# EAGLE library part AK4683 (library NewSDR)
ASAHI KASEI Asynchronous Multi-Channel Audio CODEC with DRI/T 64-pin LQFP
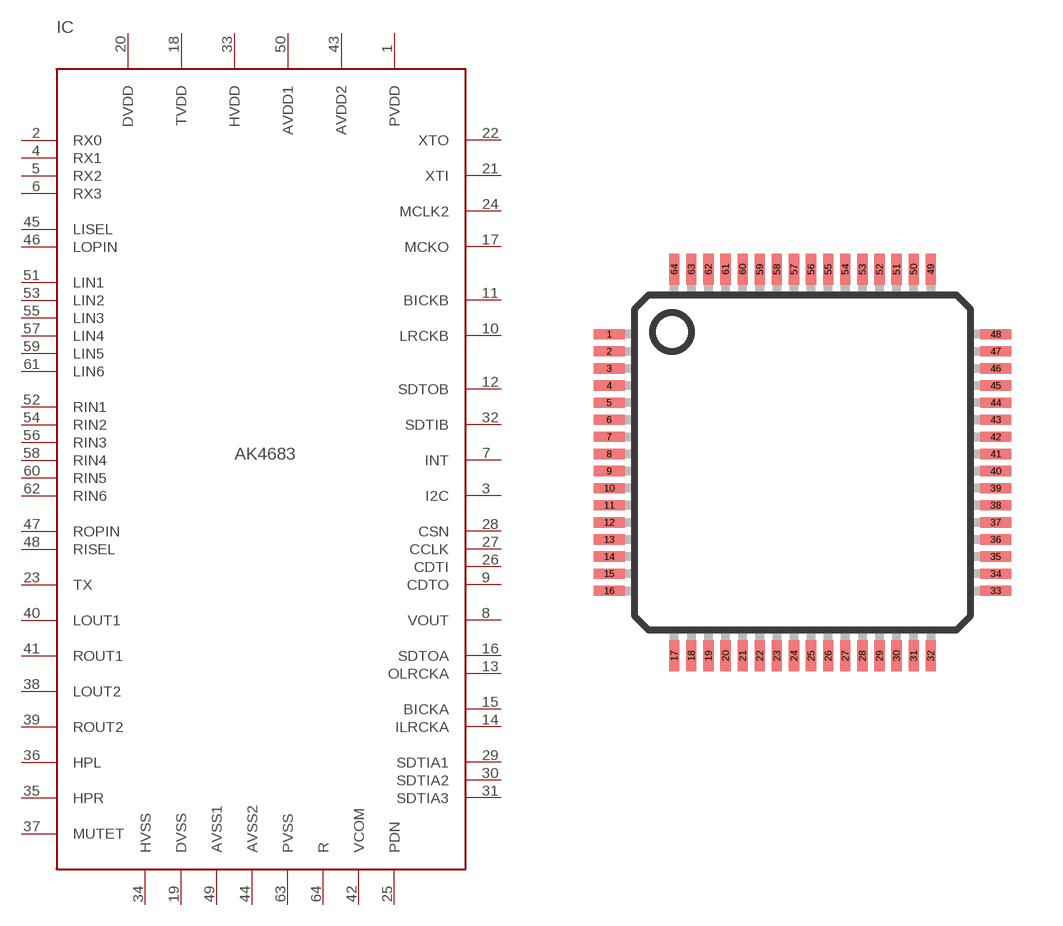
[diagram p16: symbol with the pads of LQFP-ST-64-2; footprint LQFP-ST-64-2]

Designator prefix IC

## AK4683  [LQFP-ST-64-2]
1  PVDD  pwr
2  RX0  in
3  I2C  in
4  RX1  in
5  RX2  in
6  RX3  in
7  INT  out
8  VOUT  out
9  CDTO  out
10  LRCKB
11  BICKB
12  SDTOB  out
13  OLRCKA
14  ILRCKA
15  BICKA
16  SDTOA  out
17  MCKO  out
18  TVDD  pwr
19  DVSS  pwr
20  DVDD  pwr
21  XTI  pas
22  XTO  pas
23  TX  out
24  MCLK2  in
25  PDN  in
26  CDTI
27  CCLK  in
28  CSN  in
29  SDTIA1  in
30  SDTIA2  in
31  SDTIA3  in
32  SDTIB  in
33  HVDD  pwr
34  HVSS  pwr
35  HPR  out
36  HPL  out
37  MUTET
38  LOUT2  out
39  ROUT2  out
40  LOUT1  out
41  ROUT1  out
42  VCOM  pwr
43  AVDD2  pwr
44  AVSS2  pwr
45  LISEL  pas
46  LOPIN  pas
47  ROPIN  pas
48  RISEL  pas
49  AVSS1  pwr
50  AVDD1  pwr
51  LIN1  in
52  RIN1  in
53  LIN2  in
54  RIN2  in
55  LIN3  in
56  RIN3  in
57  LIN4  in
58  RIN4  in
59  LIN5  in
60  RIN5  in
61  LIN6  in
62  RIN6  in
63  PVSS  pwr
64  R  pwr

## Footprint LQFP-ST-64-2 (pad centres in mm)
64-Lead Low Profile Quad Flat Package [LQFP] (ST-64-2) COMPLIANT TO JEDEC STANDARDS MS-026-BCD Source: http://www.analog.com/UploadedFiles/Data_Sheets/288945048AD7C7019_20_1_2_4_5_6_7_0.pdf
smd 0.9 x 0.3: 1 -5.65,3.75; 2 -5.65,3.25; 3 -5.65,2.75; 4 -5.65,2.25; 5 -5.65,1.75; 6 -5.65,1.25; 7 -5.65,0.75; 8 -5.65,0.25; 9 -5.65,-0.25; 10 -5.65,-0.75; 11 -5.65,-1.25; 12 -5.65,-1.75; 13 -5.65,-2.25; 14 -5.65,-2.75; 15 -5.65,-3.25; 16 -5.65,-3.75; 33 5.65,-3.75; 34 5.65,-3.25; 35 5.65,-2.75; 36 5.65,-2.25; 37 5.65,-1.75; 38 5.65,-1.25; 39 5.65,-0.75; 40 5.65,-0.25; 41 5.65,0.25; 42 5.65,0.75; 43 5.65,1.25; 44 5.65,1.75; 45 5.65,2.25; 46 5.65,2.75; 47 5.65,3.25; 48 5.65,3.75
smd 0.3 x 0.9: 17 -3.75,-5.65; 18 -3.25,-5.65; 19 -2.75,-5.65; 20 -2.25,-5.65; 21 -1.75,-5.65; 22 -1.25,-5.65; 23 -0.75,-5.65; 24 -0.25,-5.65; 25 0.25,-5.65; 26 0.75,-5.65; 27 1.25,-5.65; 28 1.75,-5.65; 29 2.25,-5.65; 30 2.75,-5.65; 31 3.25,-5.65; 32 3.75,-5.65; 49 3.75,5.65; 50 3.25,5.65; 51 2.75,5.65; 52 2.25,5.65; 53 1.75,5.65; 54 1.25,5.65; 55 0.75,5.65; 56 0.25,5.65; 57 -0.25,5.65; 58 -0.75,5.65; 59 -1.25,5.65; 60 -1.75,5.65; 61 -2.25,5.65; 62 -2.75,5.65; 63 -3.25,5.65; 64 -3.75,5.65